# Altium schematic symbol library HMC5883L.SchLib: 1 symbol
Pins are listed as number, name and electrical type; pins without a type are passive.

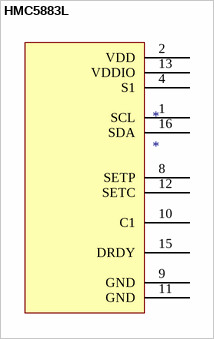
[diagram p0: symbol HMC5883L]

## HMC5883L
designator *
pins: 1 SCL, 2 VDD (power), 3 NC hidden, 4 S1, 5 NC hidden, 6 NC hidden, 7 NC hidden, 8 SETP, 9 GND (power), 10 C1, 11 GND (power), 12 SETC, 13 VDDIO, 14 NC hidden, 15 DRDY, 16 SDA